# Altium footprint library opo.PcbLib: 30 footprints (part 1 of 2)
Each footprint in its own frame and in the unit in brackets; x right, y up, seen from the top. Pads: shape width x height; smd on the part's side, far side on the other; paste and mask are expansions set on the pad; w line width, h text height; cw(c..) or ccw(c..) is an arc to the next point about the centre after c.
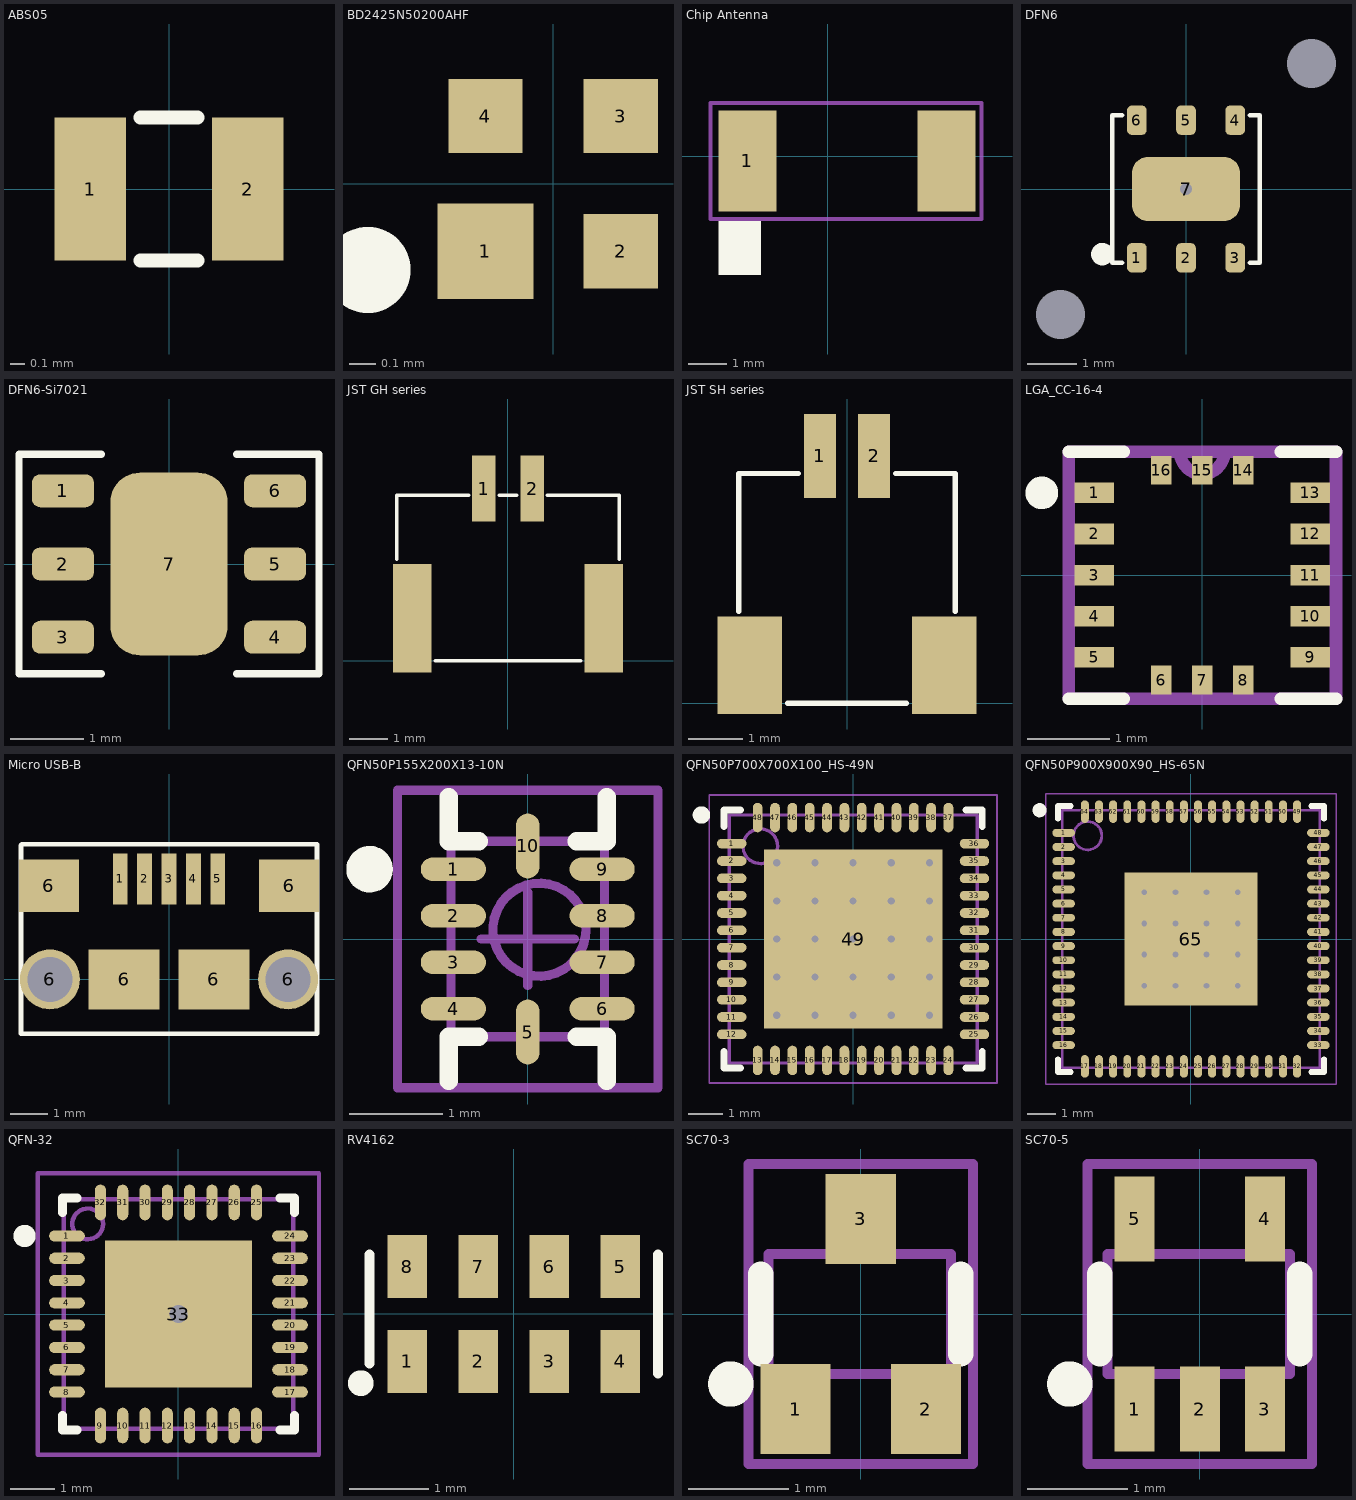
[diagram p0: the footprints below, top view; thin cyan lines are the x and y axes]

## ABS05 [mm] "ABS05 Crystal"
pads (2):
  rect 0.5x1 smd: 1(-0.55,0) 2(0.55,0)
Top Overlay:
  lines w0.1: -0.2,-0.5 0.2,-0.5 ; -0.2,0.5 0.2,0.5
3D body: height 0.5, standoff 0.45, extent -0.725,-0.4 0.725,0.425
3D body: height 0.45, standoff 0, extent -0.8,-0.5 0.8,0.5

## BD2425N50200AHF [mm] "BD2425N50200AHF"
pads (4):
  rect 0.36x0.36 smd: 1(-0.255,-0.255)
  rect 0.28x0.28 smd: 2(0.255,-0.255) 3(0.255,0.255) 4(-0.255,0.255)
Top Overlay:
  circle w0.254: c-0.7,-0.325 r0.035
3D body: height 0.56, standoff 0, extent -0.5,-0.5 0.5,0.5

## Chip Antenna [mm] "FR05-S1-N-0-102"
pads (2):
  rect 1.5x2.6 smd: 1(-2.075,-0.125) ""(3.075,-0.125)
Top Overlay:
  rectangle: -2.825,-3.075 -1.725,-1.675
Mechanical 13:
  lines w0.1: -3.025,-1.625 -3.025,1.375 3.975,1.375 3.975,-1.625 -3.025,-1.625
Mechanical 15:
  lines w0.1: -3.025,-1.625 -3.025,1.375 3.975,1.375 3.975,-1.625 -3.025,-1.625
3D body: height 2, standoff 0, extent -3.025,-1.625 3.975,1.375

## DFN6 [mm]
pads (9):
  rrect50% 0.4x0.6 smd: 1(-1,-1.4) 2(0,-1.4) 3(1,-1.4) 4(1,1.4) 5(0,1.4) 6(-1,1.4)
  rrect50% 2.2x1.3 smd mask+0.1: 7(0,0)
  rect 0x0 hole 1: ""(-2.55,-2.55) ""(2.55,2.55)
via 0,0 diameter 0.508 hole 0.254
Top Overlay:
  circle w0.254: c-1.7,-1.325 r0.1
  lines w0.1: -1.3,-1.5 -1.5,-1.5 -1.5,1.5 -1.3,1.5 ; 1.3,-1.5 1.5,-1.5 1.5,1.5 1.3,1.5
3D body: height 1.1, standoff 0, extent -1.5,-1.5 1.5,1.5
3D body: height 1.1, standoff 0, extent 0.3,-1 1.1,1

## DFN6-Si7021 [mm]
pads (7):
  rrect50% 0.85x0.45 smd: 1(-1.45,1) 2(-1.45,0) 3(-1.45,-1) 4(1.45,-1) 5(1.45,0) 6(1.45,1)
  rrect50% 1.6x2.5 smd: 7(0,0)
Top Overlay:
  lines w0.1: -0.925,-1.5 -2.05,-1.5 -2.05,1.5 -0.925,1.5 ; 0.925,-1.5 2.05,-1.5 2.05,1.5 0.925,1.5
3D body: height 1.21, standoff 0.75, extent -1.425,-1.425 1.425,1.425
3D body: height 0.75, standoff 0, extent -1.5,-1.5 1.5,1.5

## JST GH series [mm] "JST GH series, 2 positions"
pads (4):
  rect 0.6x1.7 smd: 1(-0.625,4.45) 2(0.625,4.45)
  rect 1x2.8 smd: ""(-2.475,1.1) ""(2.475,1.1)
Top Overlay:
  lines w0.1: -2.875,2.625 -2.875,4.275 -1.025,4.275 ; -1.875,0 1.875,0 ; -0.225,4.275 0.225,4.275 ; 1.025,4.275 2.875,4.275 2.875,2.625
3D body: height 4.05, standoff 0, extent -2.875,0 2.875,4.25

## JST SH series [mm] "JST SH series, 2 positions"
pads (4):
  rect 0.6x1.55 smd: 1(-0.5,4.575) 2(0.5,4.575)
  rect 1.2x1.8 smd: ""(-1.8,0.7) ""(1.8,0.7)
Top Overlay:
  lines w0.1: -2,1.7 -2,4.25 -0.9,4.25 ; -1.1,0 1.1,0 ; 0.9,4.25 2,4.25 2,1.7
3D body: height 2.95, standoff 0, extent -2,0 2,4.25

## LGA_CC-16-4 [mm]
pads (16):
  rect 0.475x0.25 smd: 1(-1.313,1) 2(-1.313,0.5) 3(-1.313,0) 4(-1.313,-0.5) 5(-1.313,-1) 9(1.313,-1) 10(1.313,-0.5) 11(1.313,0) 12(1.313,0.5) 13(1.313,1)
  rect 0.25x0.35 smd: 6(-0.5,-1.275) 7(0,-1.275) 8(0.5,-1.275) 14(0.5,1.275) 15(0,1.275) 16(-0.5,1.275)
Top Overlay:
  circle w0.254: c-1.95,1 r0.071
  lines w0.152: -1.625,-1.5 -0.954,-1.5 ; -1.625,1.5 -0.954,1.5 ; 0.954,-1.5 1.625,-1.5 ; 0.954,1.5 1.625,1.5
Mechanical 1:
  lines w0: -0.271,1.5 ccw(c0,1.5) 0.271,1.5 ; -1.625,-1.5 -1.625,1.5 1.625,1.5 1.625,-1.5 -1.625,-1.5
  lines w0.152: -0.271,1.5 ccw(c0,1.5) 0.271,1.5 ; -1.625,-1.5 -1.625,1.5 1.625,1.5 1.625,-1.5 -1.625,-1.5
3D body: height 1.15, standoff 0, extent -1.625,-1.5 1.625,1.5

## Micro USB-B [mm]
pads (11):
  rect 0.4x1.35 smd mask+0.1: 1(-1.3,2.675) 2(-0.65,2.675) 3(0,2.675) 4(0.65,2.675) 5(1.3,2.675)
  rect 1.6x1.4 smd mask+0.1: 6(-3.2,2.5) 6(3.2,2.5)
  round 1.6 hole 1.2: 6(-3.175,0) 6(3.175,0)
  rect 1.9x1.6 smd mask+0.1: 6(-1.2,0) 6(1.2,0)
Top Overlay:
  lines w0.127: -3.95,-1.45 -3.95,3.575 -3.925,3.6 3.95,3.6 3.95,-1.45 -3.95,-1.45

## QFN50P155X200X13-10N [mm] "QFN, 10-Leads, Body 2.1x1.6mm (max), Pitch 0.50mm, IPC Medium Density"
height 0.127
pads (10):
  oval 0.7x0.25 smd: 1(-0.8,0.75) 2(-0.8,0.25) 3(-0.8,-0.25) 4(-0.8,-0.75) 6(0.8,-0.75) 7(0.8,-0.25) 8(0.8,0.25) 9(0.8,0.75)
  oval 0.25x0.7 smd: 5(0,-1) 10(0,1)
Top Overlay:
  circle w0.25: c-1.7,0.75 r0.125
  lines w0.2: -0.85,-1.525 -0.85,-1.05 -0.525,-1.05 ; -0.85,1.525 -0.85,1.05 -0.525,1.05 ; 0.525,-1.05 0.85,-1.05 0.85,-1.525 ; 0.525,1.05 0.85,1.05 0.85,1.525
Mechanical 13:
  circle w0.1: c0.125,0.1 r0.5
  lines w0.1: -0.825,-1.05 0.825,-1.05 0.825,1.05 -0.825,1.05 -0.825,-1.05
Mechanical 15:
  lines w0.1: -0.5,0 0.5,0 ; 0,-0.5 0,0.5 ; -1.4,-1.6 1.4,-1.6 1.4,1.6 -1.4,1.6 -1.4,-1.6
3D body: height 0.13, standoff 0, extent -0.825,-1.05 0.825,1.05

## QFN50P700X700X100_HS-49N [mm] "QFN, 48-Leads, Body 7.00x7.00mm, Pitch 0.50mm, Thermal Pad 5.15x5.15mm, IPC Medium Density"
height 1
pads (49):
  oval 0.85x0.28 smd mask+0.07: 1(-3.5,2.75) 2(-3.5,2.25) 3(-3.5,1.75) 4(-3.5,1.25) 5(-3.5,0.75) 6(-3.5,0.25) 7(-3.5,-0.25) 8(-3.5,-0.75) 9(-3.5,-1.25) 10(-3.5,-1.75) 11(-3.5,-2.25) 12(-3.5,-2.75) 25(3.5,-2.75) 26(3.5,-2.25) 27(3.5,-1.75) 28(3.5,-1.25) 29(3.5,-0.75) 30(3.5,-0.25) 31(3.5,0.25) 32(3.5,0.75) 33(3.5,1.25) 34(3.5,1.75) 35(3.5,2.25) 36(3.5,2.75)
  oval 0.28x0.85 smd mask+0.07: 13(-2.75,-3.5) 14(-2.25,-3.5) 15(-1.75,-3.5) 16(-1.25,-3.5) 17(-0.75,-3.5) 18(-0.25,-3.5) 19(0.25,-3.5) 20(0.75,-3.5) 21(1.25,-3.5) 22(1.75,-3.5) 23(2.25,-3.5) 24(2.75,-3.5) 37(2.75,3.5) 38(2.25,3.5) 39(1.75,3.5) 40(1.25,3.5) 41(0.75,3.5) 42(0.25,3.5) 43(-0.25,3.5) 44(-0.75,3.5) 45(-1.25,3.5) 46(-1.75,3.5) 47(-2.25,3.5) 48(-2.75,3.5)
  rect 5.15x5.15 smd: 49(0,0)
via 2.2,-2.2 diameter 0.5 hole 0.205
via 1.1,-2.2 diameter 0.5 hole 0.205
via 0,-2.2 diameter 0.5 hole 0.205
via -1.1,-2.2 diameter 0.5 hole 0.205
via -2.2,-2.2 diameter 0.5 hole 0.205
via 2.2,-1.1 diameter 0.5 hole 0.205
via 1.1,-1.1 diameter 0.5 hole 0.205
via 0,-1.1 diameter 0.5 hole 0.205
via -1.1,-1.1 diameter 0.5 hole 0.205
via -2.2,-1.1 diameter 0.5 hole 0.205
via 2.2,0 diameter 0.5 hole 0.205
via 1.1,0 diameter 0.5 hole 0.205
via 0,0 diameter 0.5 hole 0.205
via -1.1,0 diameter 0.5 hole 0.205
via -2.2,0 diameter 0.5 hole 0.205
via 2.2,1.1 diameter 0.5 hole 0.205
via 1.1,1.1 diameter 0.5 hole 0.205
via 0,1.1 diameter 0.5 hole 0.205
via -1.1,1.1 diameter 0.5 hole 0.205
via -2.2,1.1 diameter 0.5 hole 0.205
via 2.2,2.2 diameter 0.5 hole 0.205
via 1.1,2.2 diameter 0.5 hole 0.205
via 0,2.2 diameter 0.5 hole 0.205
via -1.1,2.2 diameter 0.5 hole 0.205
via -2.2,2.2 diameter 0.5 hole 0.205
Top Overlay:
  circle w0.25: c-4.375,3.575 r0.125
  lines w0.2: -3.725,-3.25 -3.725,-3.725 -3.25,-3.725 ; -3.725,3.25 -3.725,3.725 -3.25,3.725 ; 3.25,-3.725 3.725,-3.725 3.725,-3.25 ; 3.25,3.725 3.725,3.725 3.725,3.25
Mechanical 13:
  circle w0.1: c-2.675,2.675 r0.5
  lines w0.1: -3.575,-3.575 3.575,-3.575 3.575,3.575 -3.575,3.575 -3.575,-3.575
Mechanical 15:
  lines w0.05: -4.15,-4.15 4.15,-4.15 4.15,4.15 -4.15,4.15 -4.15,-4.15
  lines w0.1: -0.5,0 0.5,0 ; 0,-0.5 0,0.5
3D body: height 1, standoff 0, extent -3.575,-3.575 3.575,3.575

## QFN50P900X900X90_HS-65N [mm] "QFN, 64-Leads, Body 9.00x9.00mm, Pitch 0.50mm, Thermal Pad 4.70x4.70mm, IPC Medium Density"
height 0.9
pads (65):
  oval 0.8x0.28 smd mask+0.07: 1(-4.5,3.75) 2(-4.5,3.25) 3(-4.5,2.75) 4(-4.5,2.25) 5(-4.5,1.75) 6(-4.5,1.25) 7(-4.5,0.75) 8(-4.5,0.25) 9(-4.5,-0.25) 10(-4.5,-0.75) 11(-4.5,-1.25) 12(-4.5,-1.75) 13(-4.5,-2.25) 14(-4.5,-2.75) 15(-4.5,-3.25) 16(-4.5,-3.75) 33(4.5,-3.75) 34(4.5,-3.25) 35(4.5,-2.75) 36(4.5,-2.25) 37(4.5,-1.75) 38(4.5,-1.25) 39(4.5,-0.75) 40(4.5,-0.25) 41(4.5,0.25) 42(4.5,0.75) 43(4.5,1.25) 44(4.5,1.75) 45(4.5,2.25) 46(4.5,2.75) 47(4.5,3.25) 48(4.5,3.75)
  oval 0.28x0.8 smd mask+0.07: 17(-3.75,-4.5) 18(-3.25,-4.5) 19(-2.75,-4.5) 20(-2.25,-4.5) 21(-1.75,-4.5) 22(-1.25,-4.5) 23(-0.75,-4.5) 24(-0.25,-4.5) 25(0.25,-4.5) 26(0.75,-4.5) 27(1.25,-4.5) 28(1.75,-4.5) 29(2.25,-4.5) 30(2.75,-4.5) 31(3.25,-4.5) 32(3.75,-4.5) 49(3.75,4.5) 50(3.25,4.5) 51(2.75,4.5) 52(2.25,4.5) 53(1.75,4.5) 54(1.25,4.5) 55(0.75,4.5) 56(0.25,4.5) 57(-0.25,4.5) 58(-0.75,4.5) 59(-1.25,4.5) 60(-1.75,4.5) 61(-2.25,4.5) 62(-2.75,4.5) 63(-3.25,4.5) 64(-3.75,4.5)
  rect 4.7x4.7 smd: 65(0,0)
via -1.65,1.65 diameter 0.5 hole 0.205
via -0.55,1.65 diameter 0.5 hole 0.205
via 0.55,1.65 diameter 0.5 hole 0.205
via 1.65,1.65 diameter 0.5 hole 0.205
via -1.65,0.55 diameter 0.5 hole 0.205
via -0.55,0.55 diameter 0.5 hole 0.205
via 0.55,0.55 diameter 0.5 hole 0.205
via 1.65,0.55 diameter 0.5 hole 0.205
via -1.65,-0.55 diameter 0.5 hole 0.205
via -0.55,-0.55 diameter 0.5 hole 0.205
via 0.55,-0.55 diameter 0.5 hole 0.205
via 1.65,-0.55 diameter 0.5 hole 0.205
via -1.65,-1.65 diameter 0.5 hole 0.205
via -0.55,-1.65 diameter 0.5 hole 0.205
via 0.55,-1.65 diameter 0.5 hole 0.205
via 1.65,-1.65 diameter 0.5 hole 0.205
Top Overlay:
  circle w0.25: c-5.35,4.55 r0.125
  lines w0.2: -4.7,-4.25 -4.7,-4.7 -4.25,-4.7 ; -4.7,4.25 -4.7,4.7 -4.25,4.7 ; 4.25,-4.7 4.7,-4.7 4.7,-4.25 ; 4.25,4.7 4.7,4.7 4.7,4.25
Mechanical 13:
  circle w0.1: c-3.65,3.65 r0.5
  lines w0.1: -4.55,-4.55 -4.55,4.55 4.55,4.55 4.55,-4.55 -4.55,-4.55
Mechanical 15:
  lines w0.05: -5.125,-5.125 -5.125,5.125 5.125,5.125 5.125,-5.125 -5.125,-5.125
  lines w0.1: -0.5,0 0.5,0 ; 0,-0.5 0,0.5
3D body: height 0.9, standoff 0, extent -4.55,-4.55 4.55,4.55

## QFN-32 [mm] "32-Pin QFN 0.5 mm Pitch"
height 0.8
pads (33):
  oval 0.8x0.25 smd: 1(-2.5,1.75) 2(-2.5,1.25) 3(-2.5,0.75) 4(-2.5,0.25) 5(-2.5,-0.25) 6(-2.5,-0.75) 7(-2.5,-1.25) 8(-2.5,-1.75) 17(2.5,-1.75) 18(2.5,-1.25) 19(2.5,-0.75) 20(2.5,-0.25) 21(2.5,0.25) 22(2.5,0.75) 23(2.5,1.25) 24(2.5,1.75)
  oval 0.25x0.8 smd: 9(-1.75,-2.5) 10(-1.25,-2.5) 11(-0.75,-2.5) 12(-0.25,-2.5) 13(0.25,-2.5) 14(0.75,-2.5) 15(1.25,-2.5) 16(1.75,-2.5) 25(1.75,2.5) 26(1.25,2.5) 27(0.75,2.5) 28(0.25,2.5) 29(-0.25,2.5) 30(-0.75,2.5) 31(-1.25,2.5) 32(-1.75,2.5)
  rect 3.3x3.3 smd: 33(0,0)
via 0,0 diameter 0.7 hole 0.4
Top Overlay:
  circle w0.25: c-3.45,1.75 r0.125
  lines w0.2: -2.6,-2.275 -2.6,-2.6 -2.275,-2.6 ; -2.6,2.275 -2.6,2.6 -2.275,2.6 ; 2.275,-2.6 2.6,-2.6 2.6,-2.275 ; 2.275,2.6 2.6,2.6 2.6,2.275
Mechanical 13:
  circle w0.1: c-2.035,2.02 r0.345
  lines w0.1: -2.575,-2.575 -2.575,2.575 2.575,2.575 2.575,-2.575 -2.575,-2.575
Mechanical 15:
  lines w0.1: -0.5,0 0.5,0 ; 0,-0.5 0,0.5 ; -3.15,-3.15 -3.15,3.15 3.15,3.15 3.15,-3.15 -3.15,-3.15
3D body: height 0.8, standoff 0, extent -2.575,-2.575 2.575,2.575

## RV4162 [mm] "RTC"
pads (8):
  rect 0.5x0.8 smd: 1(-1.35,-0.6) 2(-0.45,-0.6) 3(0.45,-0.6) 4(1.35,-0.6) 5(1.35,0.6) 6(0.45,0.6) 7(-0.45,0.6) 8(-1.35,0.6)
Top Overlay:
  circle w0.254: c-1.935,-0.875 r0.035
  lines w0.127: -1.825,-0.625 -1.825,0.75 ; 1.825,-0.75 1.825,0.75
3D body: height 0.8, standoff 0, extent -1.6,-0.75 1.6,0.75

## SC70-3 [mm]
pads (3):
  rect 0.7x0.9 smd: 1(-0.65,-0.95) 2(0.65,-0.95) 3(0,0.95)
Top Overlay:
  circle w0.254: c-1.3,-0.7 r0.1
  lines w0.254: -1,-0.4 -1,0.4 ; 1,-0.4 1,0.4
Mechanical 13:
  lines w0.1: -0.925,-0.6 -0.925,0.6 0.9,0.6 0.9,-0.6 -0.925,-0.6
Mechanical 15:
  lines w0.1: -1.125,-1.5 -1.125,1.5 1.125,1.5 1.125,-1.5 -1.125,-1.5
3D body: height 0.8, standoff 0, extent -0.9,-0.6 0.9,0.6

## SC70-5 [mm]
pads (5):
  rect 0.4x0.85 smd: 1(-0.65,-0.95) 2(0,-0.95) 3(0.65,-0.95) 4(0.65,0.95) 5(-0.65,0.95)
Top Overlay:
  circle w0.254: c-1.3,-0.7 r0.1
  lines w0.254: -1,-0.4 -1,0.4 ; 1,-0.4 1,0.4
Mechanical 13:
  lines w0.1: -0.925,-0.6 0.9,-0.6 0.9,0.6 -0.925,0.6 -0.925,-0.6
Mechanical 15:
  lines w0.1: -1.125,-1.5 1.125,-1.5 1.125,1.5 -1.125,1.5 -1.125,-1.5
3D body: height 0.8, standoff 0, extent -0.9,-0.6 0.9,0.6